# EAGLE library part LSI1016EJ (library lattice)
LATTICE PROGRAMMABLE DEVICE
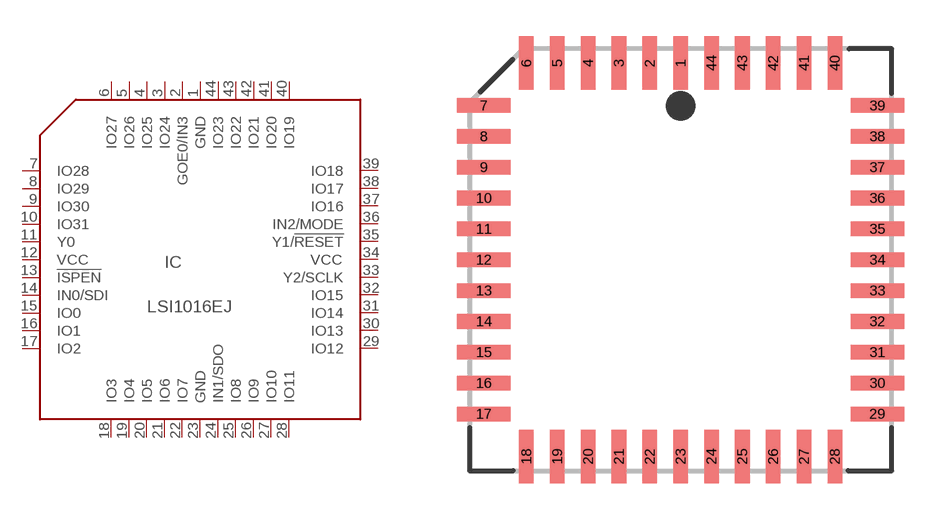
[diagram p17: symbol with the pads of PLCC44; footprint PLCC44]

Designator prefix IC

## LSI1016EJ (MPN: ISPLSI1016E-125LJN; OC_FARNELL: 1359294; OC_NEWARK: 50M4003)  [PLCC44]
1  GND  pwr
2  GOE0/IN3  in
3  IO24
4  IO25
5  IO26
6  IO27
7  IO28
8  IO29
9  IO30
10  IO31
11  Y0  in
12  VCC  pwr
13  !ISPEN  in
14  IN0/SDI  in
15  IO0
16  IO1
17  IO2
18  IO3
19  IO4
20  IO5
21  IO6
22  IO7
23  GND  pwr
24  IN1/SDO  in
25  IO8
26  IO9
27  IO10
28  IO11
29  IO12
30  IO13
31  IO14
32  IO15
33  Y2/SCLK  in
34  VCC  pwr
35  Y1/!RESET  in
36  IN2/MODE  in
37  IO16
38  IO17
39  IO18
40  IO19
41  IO20
42  IO21
43  IO22
44  IO23

## Footprint PLCC44 (pad centres in mm)
Plastic Leaded Chip Carrier
smd 0.6 x 2.2: 1 0,8.1; 2 -1.27,8.1; 3 -2.54,8.1; 4 -3.81,8.1; 5 -5.08,8.1; 6 -6.35,8.1; 18 -6.35,-8.1; 19 -5.08,-8.1; 20 -3.81,-8.1; 21 -2.54,-8.1; 22 -1.27,-8.1; 23 0,-8.1; 24 1.27,-8.1; 25 2.54,-8.1; 26 3.81,-8.1; 27 5.08,-8.1; 28 6.35,-8.1; 40 6.35,8.1; 41 5.08,8.1; 42 3.81,8.1; 43 2.54,8.1; 44 1.27,8.1
smd 2.2 x 0.6: 7 -8.1,6.35; 8 -8.1,5.08; 9 -8.1,3.81; 10 -8.1,2.54; 11 -8.1,1.27; 12 -8.1,0; 13 -8.1,-1.27; 14 -8.1,-2.54; 15 -8.1,-3.81; 16 -8.1,-5.08; 17 -8.1,-6.35; 29 8.1,-6.35; 30 8.1,-5.08; 31 8.1,-3.81; 32 8.1,-2.54; 33 8.1,-1.27; 34 8.1,0; 35 8.1,1.27; 36 8.1,2.54; 37 8.1,3.81; 38 8.1,5.08; 39 8.1,6.35